# Altium footprint library SOT-563.PcbLib: 1 footprints
Each footprint in its own frame and in the unit in brackets; x right, y up, seen from the top. Pads: shape width x height; smd on the part's side, far side on the other; paste and mask are expansions set on the pad; w line width, h text height; cw(c..) or ccw(c..) is an arc to the next point about the centre after c.
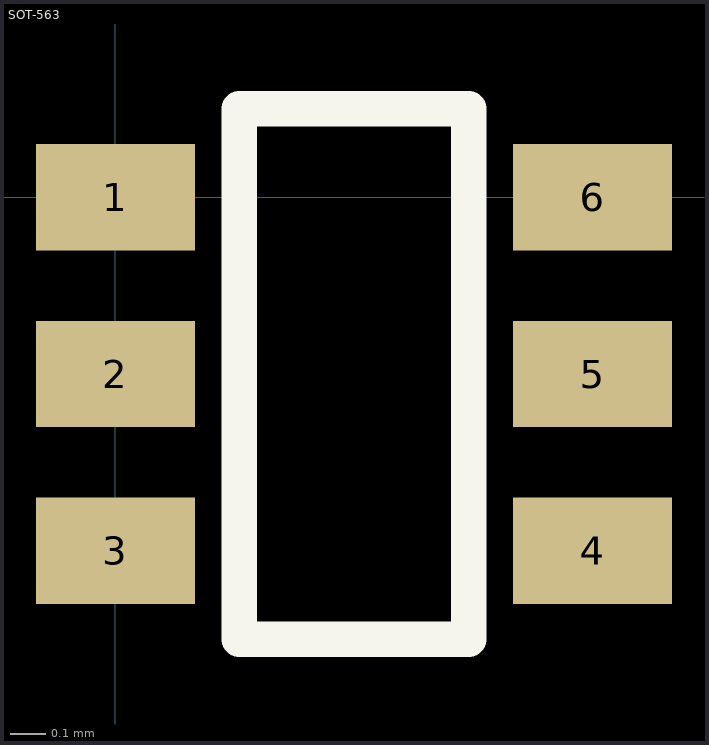
[diagram p0: the footprint, top view; thin cyan lines are the x and y axes]

## SOT-563 [mm]
pads (6):
  rect 0.45x0.3 smd mask+0.05: 1(0,0) 2(0,-0.5) 3(0,-1) 4(1.35,-1) 5(1.35,-0.5) 6(1.35,0)
Top Overlay:
  lines w0.1: 0.35,-1.25 0.35,0.25 1,0.25 1,-1.25 0.35,-1.25